# EAGLE library part CAMERA_CMOS_CON (library User-Submitted)
640x480 CMOS Color Camera Footprint proven. Spark Fun Electronics Camera SKU : SEN-00637, Mating Connector SKU : SEN-00638
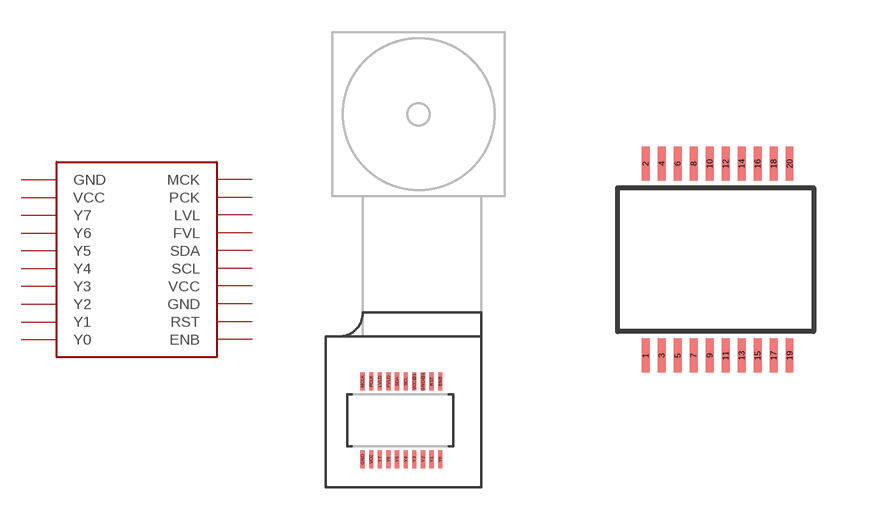
[diagram p10: symbol with the pads of CAMERA_CMOS_CON; footprints CAMERA_CMOS_CON, CAMERA_CMOS_PLUG]

Designator prefix -

## CAMERA_CMOS_CONSMD  [CAMERA_CMOS_CON]
ENB  ENB
FVLD  FVL
GND  GND
GND@1  GND
LVLD  LVL
MCLK  MCK
PCLK  PCK
RST  RST
SCL  SCL
SDA  SDA
VCC  VCC
VCC@1  VCC
Y0  Y0
Y1  Y1
Y2  Y2
Y3  Y3
Y4  Y4
Y5  Y5
Y6  Y6
Y7  Y7

## CAMERA_CMOS_CONPLUG  [CAMERA_CMOS_PLUG]
1  Y0
2  Y1
3  Y2
4  Y3
5  Y4
6  Y5
7  Y6
8  Y7
9  VCC
10  GND
11  ENB
12  RST
13  GND
14  VCC
15  SCL
16  SDA
17  FVL
18  LVL
19  PCK
20  MCK

## Footprint CAMERA_CMOS_CON (pad centres in mm)
smd 0.2 x 0.83: ENB 3.6,1.8; FVLD 1.2,1.8; GND 0,-1.8; GND@1 2.8,1.8; LVLD 0.8,1.8; MCLK 0,1.8; PCLK 0.4,1.8; RST 3.2,1.8; SCL 2,1.8; SDA 1.6,1.8; VCC 0.4,-1.8; VCC@1 2.4,1.8; Y0 3.6,-1.8; Y1 3.2,-1.8; Y2 2.8,-1.8; Y3 2.4,-1.8; Y4 2,-1.8; Y5 1.6,-1.8; Y6 1.2,-1.8; Y7 0.8,-1.8

## Footprint CAMERA_CMOS_PLUG (pad centres in mm)
smd 0.2 x 0.85: 1 0.7,-2.4; 2 0.7,2.4; 3 1.1,-2.4; 4 1.1,2.4; 5 1.5,-2.4; 6 1.5,2.4; 7 1.9,-2.4; 8 1.9,2.4; 9 2.3,-2.4; 10 2.3,2.4; 11 2.7,-2.4; 12 2.7,2.4; 13 3.1,-2.4; 14 3.1,2.4; 15 3.5,-2.4; 16 3.5,2.4; 17 3.9,-2.4; 18 3.9,2.4; 19 4.3,-2.4; 20 4.3,2.4